# EAGLE library part LM5005 (library ICs)
LM5005 High Voltage 2.5 Amp Buck Regulator
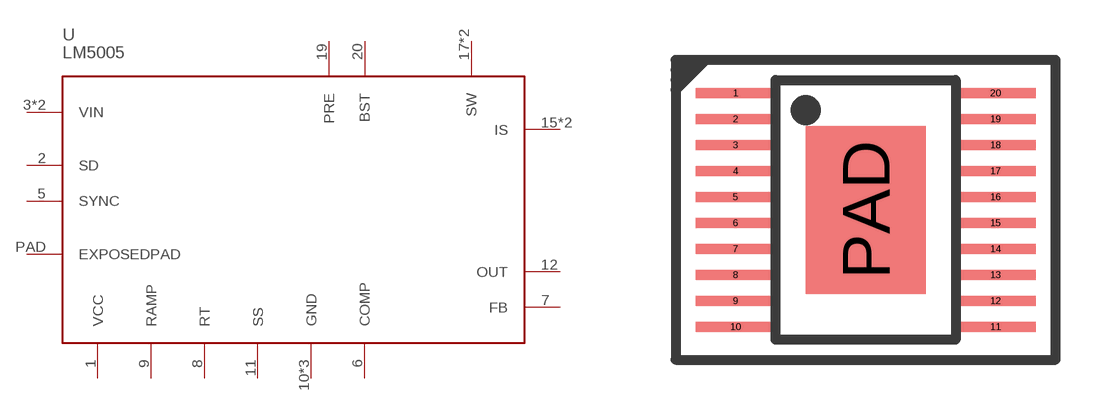
[diagram p38: symbol with the pads of HTSSOP20; footprint HTSSOP20]

Designator prefix -

## LM5005MHX/NOPB (DIGIKEY: LM5005MHX/NOPBCT-ND)  [HTSSOP20]
1  VCC
2  SD
3  VIN
4  VIN
5  SYNC
6  COMP
7  FB
8  RT
9  RAMP
10  GND
11  SS
12  OUT
13  GND
14  GND
15  IS
16  IS
17  SW
18  SW
19  PRE
20  BST
PAD  EXPOSEDPAD

## Footprint HTSSOP20 (pad centres in mm)
smd 2 x 0.25: 1 -3.25,2.925; 2 -3.25,2.275; 3 -3.25,1.625; 4 -3.25,0.975; 5 -3.25,0.325; 6 -3.25,-0.325; 7 -3.25,-0.975; 8 -3.25,-1.625; 9 -3.25,-2.275; 10 -3.25,-2.925; 11 3.25,-2.925; 12 3.25,-2.275; 13 3.25,-1.625; 14 3.25,-0.975; 15 3.25,-0.325; 16 3.25,0.325; 17 3.25,0.975; 18 3.25,1.625; 19 3.25,2.275; 20 3.25,2.925
smd 3 x 4.2: PAD 0,0